# EAGLE library part 74AC11881 (library 74ac-logic)
COMPARATOR
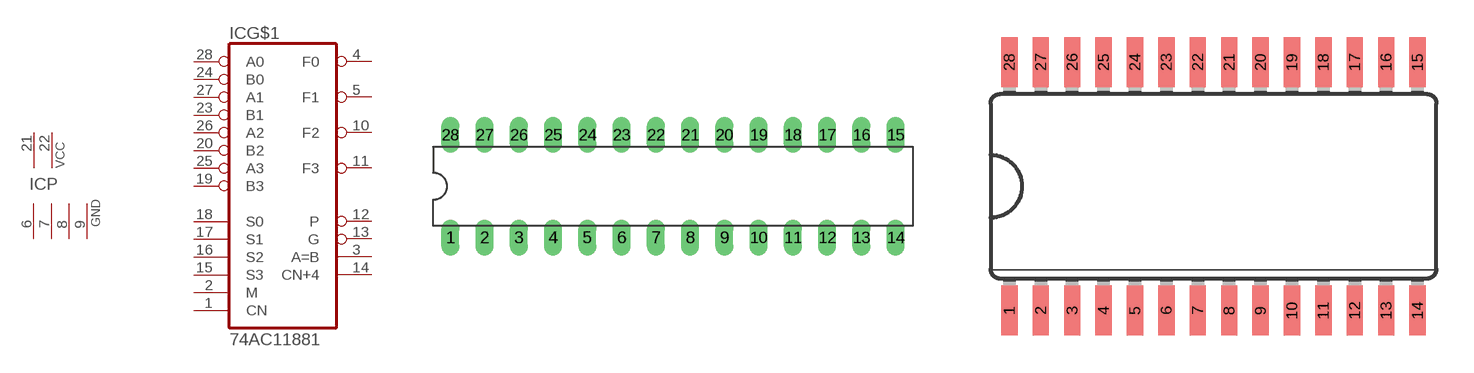
[diagram p47: symbol with the pads of DIL28-3; footprints DIL28-3, SO28W]

Designator prefix IC; gates G$1=7411881 P=2PWR4GND

## 74AC11881  [DIL28-3]
1  G$1:CN  in
2  G$1:M  in
3  G$1:A=B  out
4  G$1:F0  out
5  G$1:F1  out
6  P:GND  pwr
7  P:GND  pwr
8  P:GND  pwr
9  P:GND  pwr
10  G$1:F2  out
11  G$1:F3  out
12  G$1:P  out
13  G$1:G  out
14  G$1:CN+4  out
15  G$1:S3  in
16  G$1:S2  in
17  G$1:S1  in
18  G$1:S0  in
19  G$1:B3  in
20  G$1:B2  in
21  P:VCC  pwr
22  P:VCC  pwr
23  G$1:B1  in
24  G$1:B0  in
25  G$1:A3  in
26  G$1:A2  in
27  G$1:A1  in
28  G$1:A0  in

## 74AC11881D  [SO28W]
Pads as for DIL28-3

## Footprint DIL28-3 (pad centres in mm)
Dual In Line Package Small
drill 0.813 long: 1 -16.51,-3.81; 2 -13.97,-3.81; 3 -11.43,-3.81; 4 -8.89,-3.81; 5 -6.35,-3.81; 6 -3.81,-3.81; 7 -1.27,-3.81; 8 1.27,-3.81; 9 3.81,-3.81; 10 6.35,-3.81; 11 8.89,-3.81; 12 11.43,-3.81; 13 13.97,-3.81; 14 16.51,-3.81; 15 16.51,3.81; 16 13.97,3.81; 17 11.43,3.81; 18 8.89,3.81; 19 6.35,3.81; 20 3.81,3.81; 21 1.27,3.81; 22 -1.27,3.81; 23 -3.81,3.81; 24 -6.35,3.81; 25 -8.89,3.81; 26 -11.43,3.81; 27 -13.97,3.81; 28 -16.51,3.81

## Footprint SO28W (pad centres in mm)
Wide Small Outline package 300 mil
smd 0.66 x 2.032: 1 -8.255,-5.029; 2 -6.985,-5.029; 3 -5.715,-5.029; 4 -4.445,-5.029; 5 -3.175,-5.029; 6 -1.905,-5.029; 7 -0.635,-5.029; 8 0.635,-5.029; 9 1.905,-5.029; 10 3.175,-5.029; 11 4.445,-5.029; 12 5.715,-5.029; 13 6.985,-5.029; 14 8.255,-5.029; 15 8.255,5.029; 16 6.985,5.029; 17 5.715,5.029; 18 4.445,5.029; 19 3.175,5.029; 20 1.905,5.029; 21 0.635,5.029; 22 -0.635,5.029; 23 -1.905,5.029; 24 -3.175,5.029; 25 -4.445,5.029; 26 -5.715,5.029; 27 -6.985,5.029; 28 -8.255,5.029